# EAGLE library part 8P8C-6PORT (library exoteric-analytics-custom)
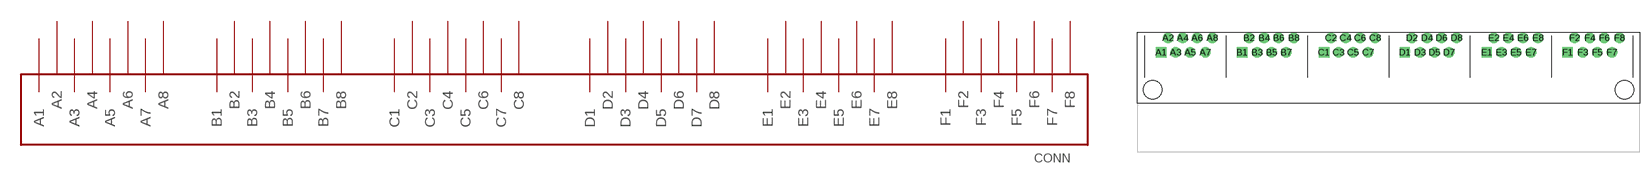
[diagram p5: symbol with the pads of 4UCON-04953; footprint 4UCON-04953]

Designator prefix CONN

## 8P8C-6PORT  [4UCON-04953]
A1  A1
A2  A2
A3  A3
A4  A4
A5  A5
A6  A6
A7  A7
A8  A8
B1  B1
B2  B2
B3  B3
B4  B4
B5  B5
B6  B6
B7  B7
B8  B8
C1  C1
C2  C2
C3  C3
C4  C4
C5  C5
C6  C6
C7  C7
C8  C8
D1  D1
D2  D2
D3  D3
D4  D4
D5  D5
D6  D6
D7  D7
D8  D8
E1  E1
E2  E2
E3  E3
E4  E4
E5  E5
E6  E6
E7  E7
E8  E8
F1  F1
F2  F2
F3  F3
F4  F4
F5  F5
F6  F6
F7  F7
F8  F8

## Footprint 4UCON-04953 (pad centres in mm)
drill 1.1 pad 1.778 square: A1 -39.1,6.8; B1 -25.2,6.8; C1 -11.1,6.8; D1 2.8,6.8; E1 16.9,6.8; F1 30.8,6.8
drill 1.1 pad 1.778: A2 -37.9,9.3; A3 -36.6,6.8; A4 -35.4,9.3; A5 -34.1,6.8; A6 -32.9,9.3; A7 -31.5,6.8; A8 -30.3,9.3; B2 -24,9.3; B3 -22.6,6.8; B4 -21.4,9.3; B5 -20.1,6.8; B6 -18.9,9.3; B7 -17.6,6.8; B8 -16.3,9.3; C2 -9.9,9.3; C3 -8.6,6.8; C4 -7.4,9.3; C5 -6.1,6.8; C6 -4.9,9.3; C7 -3.5,6.8; C8 -2.3,9.3; D2 4,9.3; D3 5.4,6.8; D4 6.6,9.3; D5 7.9,6.8; D6 9.1,9.3; D7 10.4,6.8; D8 11.7,9.3; E2 18.1,9.3; E3 19.4,6.8; E4 20.6,9.3; E5 21.9,6.8; E6 23.1,9.3; E7 24.5,6.8; E8 25.7,9.3; F2 32,9.3; F3 33.4,6.8; F4 34.6,9.3; F5 35.9,6.8; F6 37.1,9.3; F7 38.4,6.8; F8 39.7,9.3
hole 3.2 at -40.6,0.4
hole 3.2 at 40.6,0.4